# Altium schematic symbol library LM2575.SchLib: 1 symbol
Pins are listed as number, name and electrical type; pins without a type are passive.

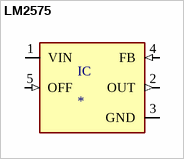
[diagram p0: symbol LM2575]

## LM2575
designator IC
Buck Switching Regulator IC Positive Fixed 5V 1 Output 1A TO-263-6, DÂ²Pak _5 Leads + Tab_, TO-263BA; MF: Texas Instruments; MP: LM2575; Price: None; Availability: Unavailable; Package: TO-263-6 Texas Instruments; SnapEDA_Link: https://www.snapeda.com/parts/LM2575/Texas%20Instruments/view-part/558385/?ref=snap; Value: *
footprint TO220-5
pins: 1 VIN (power), 2 OUT (out), 3 GND (power), 4 FB (in), 5 OFF (in)